# Altium schematic symbol library DTM13-12PA-R008.SchLib: 1 symbol
Pins are listed as number, name and electrical type; pins without a type are passive.

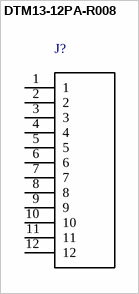
[diagram p0: symbol DTM13-12PA-R008]

## DTM13-12PA-R008
designator J?  (value not drawn)
/ DTM Series, 4.19mm Pitch 12 Way 2 Row Right Angle PCB Header, Solder Termination /; MF: TE Connectivity; Digi-Key_Part_Number: 1734-1130-ND; Digi-Key_Purchase_URL: https://www.digikey.com/product-detail/en/te-connectivity-deutsch-connectors/DTM13-12PA-R008/1734-1130-ND/6566694?utm_source=snapeda&utm_medium=aggregator&utm_campaign=symbol; Package: None; MP: DTM13-12PA-R008; EU_RoHS_Compliance: Compliant; SnapEDA_Link: https://www.snapeda.com/parts/DTM13-12PA-R008/TE%20Connectivity%20Deutsch%20Connectors/view-part/?ref=snap; TE_purchase_URL: https://www.te.com/usa-en/product-DTM13-12PA-R008.html?te_bu=Cor&te_type=disp&te_campaign=seda_glo_cor-seda-global-disp-prtnr-fy19-seda-model-bom-cta_sma-317_1&elqCampaignId=32493; Value: *
footprint *TE_DTM13-12PA-R008
pins: 1, 2, 3, 4, 5, 6, 7, 8, 9, 10, 11, 12